# EAGLE library part ADF4360 (library adf4360)
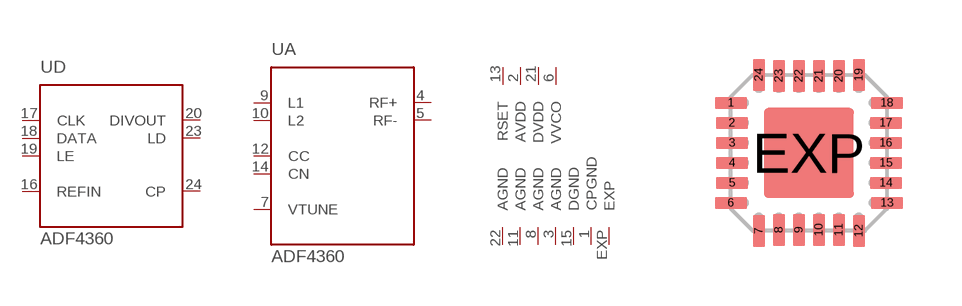
[diagram p0: symbol with the pads of LFCSP24; footprint LFCSP24]

Designator prefix -; gates D=PLL A=VCO P=PWR

## ADF4360  [LFCSP24]
1  P:CPGND  pwr
2  P:AVDD  pwr
3  P:AGND  pwr
4  A:RF+  out
5  A:RF-  out
6  P:VVCO  pwr
7  A:VTUNE  in
8  P:AGND  pwr
9  A:L1  pas
10  A:L2  pas
11  P:AGND  pwr
12  A:CC  pas
13  P:RSET  pwr
14  A:CN  pas
15  P:DGND  pwr
16  D:REFIN  in
17  D:CLK  in
18  D:DATA  in
19  D:LE  in
20  D:DIVOUT  out
21  P:DVDD  pwr
22  P:AGND  pwr
23  D:LD  out
24  D:CP  out
EXP  P:EXP  pwr

## Footprint LFCSP24 (pad centres in mm)
24-Lead Lead Frame Chip Scale Package 4 mm × 4 mm (CP-24) Source: www.analog.com .. 3832984220209AD8133_0.pdf
smd 0.8 x 0.3: 1 -1.95,1.25; 2 -1.925,0.75; 3 -1.925,0.25; 4 -1.925,-0.25; 5 -1.925,-0.75; 6 -1.95,-1.25; 13 1.95,-1.25; 14 1.925,-0.75; 15 1.925,-0.25; 16 1.925,0.25; 17 1.925,0.75; 18 1.95,1.25
smd 0.3 x 0.8: 7 -1.25,-1.95; 8 -0.75,-1.925; 9 -0.25,-1.925; 10 0.25,-1.925; 11 0.75,-1.925; 12 1.25,-1.95; 19 1.25,1.95; 20 0.75,1.925; 21 0.25,1.925; 22 -0.25,1.925; 23 -0.75,1.925; 24 -1.25,1.95
smd 2.25 x 2.25: EXP 0,0